# EAGLE library part HTS221 (library HTS221)
Capacitive digital sensor for relative humidity and temperature
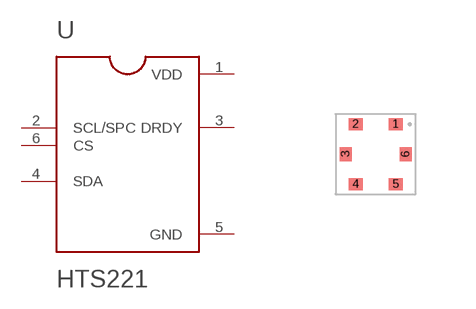
[diagram p0: symbol with the pads of LGA6R75P3X2_200X200X90; footprint LGA6R75P3X2_200X200X90]

Designator prefix -

## HTS221 (Availability: Unavailable; Description: Capacitive digital sensor for relative humidity and temperature; MF: STMicroelectronics; MP: HTS221; Package: None; Price: 2.00 USD)  [LGA6R75P3X2_200X200X90]
1  VDD  pwr
2  SCL/SPC  in
3  DRDY  out
4  SDA
5  GND  pas
6  CS  in

## Footprint LGA6R75P3X2_200X200X90 (pad centres in mm)
smd 0.35 x 0.3: 1 0.5,0.75; 2 -0.5,0.75; 4 -0.5,-0.75; 5 0.5,-0.75
smd 0.3 x 0.35: 3 -0.75,0; 6 0.75,0